# Altium schematic symbol library ALTAIR_PD_Switches.SchLib: 2 symbols
Pins are listed as number, name and electrical type; pins without a type are passive.

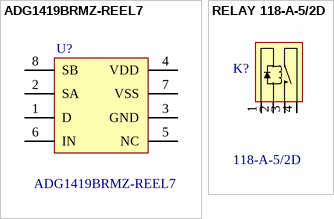
[diagram p0: symbols ADG1419BRMZ-REEL7 to RELAY 118-A-5/2D]

## ADG1419BRMZ-REEL7
designator U?
Analog Switch Single SPDT 8-Pin MSOP T/R; Manufacturer: Analog Devices; Number of Inputs: 1; Number of Outputs: 2; Min Supply Voltage: 5V; Operating Supply Voltage: 12V; Max Supply Voltage: 16.5V; Min Dual Supply Voltage: 4.5V; Max Power Dissipation: 2mW; On-State Resistance: 2.4R; Turn-On Delay Time: 110ns; Turn-Off Delay Time: 140ns; Max Supply Current: 95uA; -3db Bandwidth: 135MHz; Supply Type: Single,Dual; Dual Supply Voltage: 15V; Polarity: Non-Inverting; Interface: Parallel; Test Frequency: 1MHz; Insertion Loss: 0.16dB; Supplier 1: Digi-Key; Manufacturer Part Number: ADG1419BRMZ-REEL7; RoHS: Yes; Category: Decoders and Multiplexers; Stock 1: 12144; Pricing 1: 1=4.40000, 10=3.95100, 25=3.73520, 100=3.07100, 250=2.75560, 500=2.65600 (USD); Case/Package: MSOP; Number of Pins: 8; Contact Plating: Tin,Matte; Min Operating Temperature: -40°C; Max Operating Temperature: 125°C; Number of Channels: 1; Max Dual Supply Voltage: 16.5V; Package Quantity: 1000; Packaging: Tape and Reel; Number of Circuits: 1; Throw Configuration: SPDT; Power Dissipation: 2mW; Bandwidth: 135MHz; Radiation Hardening: No; Lead Free: Contains Lead; ComponentLink1URL: https://datasheet.ciiva.com/15127/getdatasheetpartid-348881-15127783.pdf?src-supplier=Verical; ComponentLink1Description: https://datasheet.ciiva.com/15127/getdatasheetpartid-348881-15127783.pdf?src-supplier=Verical; ComponentLink2URL: https://datasheet.ciiva.com/14846/adg1419-14846917.pdf?src-supplier=Digi-Key; ComponentLink2Description: https://datasheet.ciiva.com/14846/adg1419-14846917.pdf?src-supplier=Digi-Key; ComponentLink3URL: https://datasheet.ciiva.com/14846/adg1419-14846919.pdf?src-supplier=Digi-Key; ComponentLink3Description: https://datasheet.ciiva.com/14846/adg1419-14846919.pdf?src-supplier=Digi-Key; ComponentLink4URL: https://datasheet.ciiva.com/16637/adg1419-16637818.pdf?src-supplier=Avnet+Europe; ComponentLink4Description: https://datasheet.ciiva.com/16637/adg1419-16637818.pdf?src-supplier=Avnet+Europe; ComponentLink5URL: https://datasheet.ciiva.com/2980/adg1419-2980845.pdf?src-supplier=Avnet; ComponentLink5Description: https://datasheet.ciiva.com/2980/adg1419-2980845.pdf?src-supplier=Avnet; ComponentLink6URL: https://datasheet.ciiva.com/48708/001247710-da-01-en-ic-switch-2-adg1419brmz-reel7-msop-8-adi-48708556.pdf?src-supplier=Conrad; ComponentLink6Description: https://datasheet.ciiva.com/48708/001247710-da-01-en-ic-switch-2-adg1419brmz-reel7-msop-8-adi-48708556.pdf?src-supplier=Conrad; Supplier Part Number 1: ADG1419BRMZ-REEL7CT-ND
footprint 8-TSOP 0.65MM PITCH 3MM WIDTH IPC LOW DENSITY (TSOP65P490X110-8M)
pins: 1 D, 2 SA, 3 GND, 4 VDD, 5 NC, 6 IN, 7 VSS, 8 SB

## RELAY 118-A-5/2D
designator K?, comment 118-A-5/2D
High coil resistance SIL/SIP Reed Relay 118-A-5/2D
footprint 118-A-5/2D
pins: 1, 2, 3, 4